# EAGLE library part AD8009ARZ (library AD8009ARZ)
AD8009ARZ, Fast Operational Amplifier Current Feedback,, 9V, 8-Pin SOIC Source: Datasheet <https://datasheet.datasheetarchive.com/originals/distributors/Datasheets-4/DSA-75280.pdf>
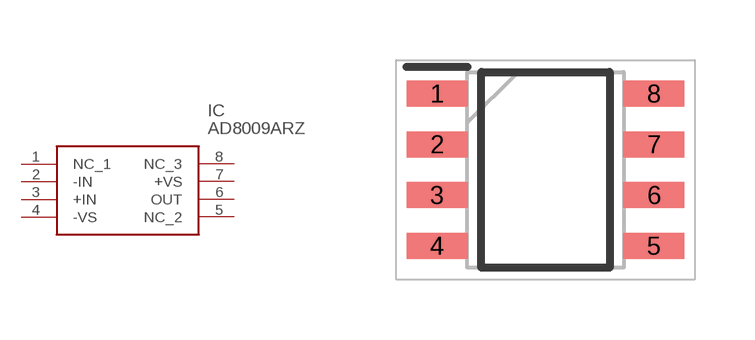
[diagram p0: symbol with the pads of SOIC127P600X175-8N; footprint SOIC127P600X175-8N]

Designator prefix IC

## AD8009ARZ (Description: AD8009ARZ, Fast Operational Amplifier Current Feedback,, 9V, 8-Pin SOIC; Height: 1.75mm; Manufacturer_Name: Analog Devices; Manufacturer_Part_Number: AD8009ARZ; Mouser_Part_Number: 584-AD8009ARZ; Mouser_Price-Stock: https://www.mouser.co.uk/ProductDetail/Analog-Devices/AD8009ARZ?qs=%2FtpEQrCGXCztmOs2ZWYkdw%3D%3D)  [SOIC127P600X175-8N]
1  NC_1
2  -IN
3  +IN
4  -VS
5  NC_2
6  OUT
7  +VS
8  NC_3

## Footprint SOIC127P600X175-8N (pad centres in mm)
R-8 (SOIC)
smd 1.525 x 0.65: 1 -2.712,1.905; 2 -2.712,0.635; 3 -2.712,-0.635; 4 -2.712,-1.905; 5 2.712,-1.905; 6 2.712,-0.635; 7 2.712,0.635; 8 2.712,1.905